# Altium footprint library CAPC4532X250A.PcbLib: 3 footprints
Each footprint in its own frame and in the unit in brackets; x right, y up, seen from the top. Pads: shape width x height; smd on the part's side, far side on the other; paste and mask are expansions set on the pad; w line width, h text height; cw(c..) or ccw(c..) is an arc to the next point about the centre after c.
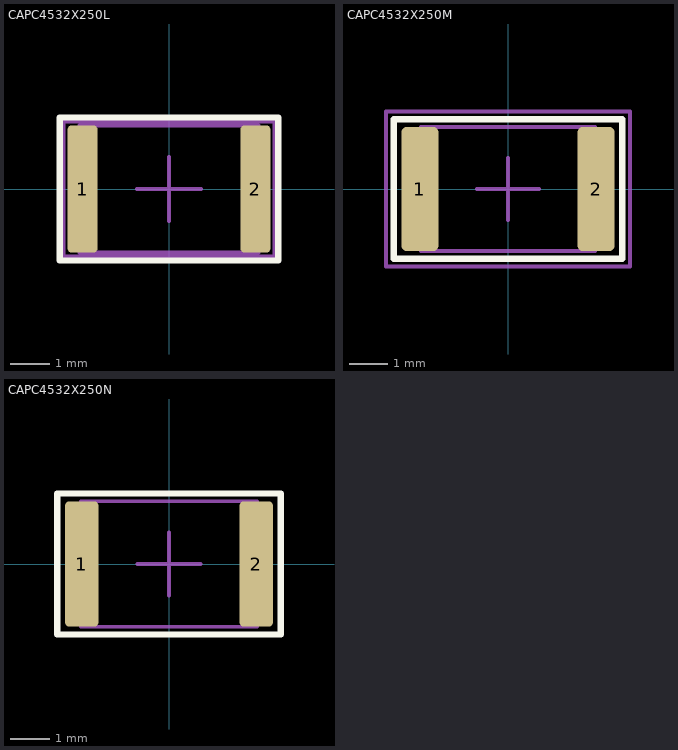
[diagram p0: the footprints below, top view; thin cyan lines are the x and y axes]

## CAPC4532X250L [mm] "Capacitors, Chip, Non-polarized"
height 2.8
pads (2):
  rrect25% 0.75x3.2 smd: 1(-2.175,0) 2(2.175,0)
Top Overlay:
  lines w0.16: -2.75,-1.8 2.75,-1.8 2.75,1.8 -2.75,1.8 -2.75,-1.8
Top Component Center:
  lines w0.1: -0.8,0 0.8,0 ; 0,-0.8 0,0.8
Top Courtyard:
  lines w0.1: -2.65,-1.7 2.65,-1.7 2.65,1.7 -2.65,1.7 -2.65,-1.7
Top Assembly:
  lines w0.1: -2.25,-1.6 2.25,-1.6 2.25,1.6 -2.25,1.6 -2.25,-1.6
  text ".Designator" at 0,0 h1
3D body "CAPC4532X250L.STEP": height 2.5, standoff 0, extent -2.25,-1.6 2.25,1.6

## CAPC4532X250M [mm] "Capacitors, Chip, Non-polarized"
height 2.8
pads (2):
  rrect25% 0.95x3.2 smd: 1(-2.275,0) 2(2.275,0)
Top Overlay:
  lines w0.16: -2.95,-1.8 2.95,-1.8 2.95,1.8 -2.95,1.8 -2.95,-1.8
Top Component Center:
  lines w0.1: -0.8,0 0.8,0 ; 0,-0.8 0,0.8
Top Courtyard:
  lines w0.1: -3.15,-2 3.15,-2 3.15,2 -3.15,2 -3.15,-2
Top Assembly:
  lines w0.1: -2.25,-1.6 2.25,-1.6 2.25,1.6 -2.25,1.6 -2.25,-1.6
  text ".Designator" at 0,0 h1
3D body "CAPC4532X250M.STEP": height 2.5, standoff 0, extent -2.25,-1.6 2.25,1.6

## CAPC4532X250N [mm] "Capacitors, Chip, Non-polarized"
height 2.8
pads (2):
  rrect25% 0.85x3.2 smd: 1(-2.225,0) 2(2.225,0)
Top Overlay:
  lines w0.16: -2.85,-1.8 2.85,-1.8 2.85,1.8 -2.85,1.8 -2.85,-1.8
Top Component Center:
  lines w0.1: -0.8,0 0.8,0 ; 0,-0.8 0,0.8
Top Courtyard:
  lines w0.1: -2.85,-1.8 2.85,-1.8 2.85,1.8 -2.85,1.8 -2.85,-1.8
Top Assembly:
  lines w0.1: -2.25,-1.6 2.25,-1.6 2.25,1.6 -2.25,1.6 -2.25,-1.6
  text ".Designator" at 0,0 h1
3D body "CAPC4532X250N.STEP": height 2.5, standoff 0, extent -2.25,-1.6 2.25,1.6